# Altium footprint library OPTIC.PcbLib: 4 footprints
Each footprint in its own frame and in the unit in brackets; x right, y up, seen from the top. Pads: shape width x height; smd on the part's side, far side on the other; paste and mask are expansions set on the pad; w line width, h text height; cw(c..) or ccw(c..) is an arc to the next point about the centre after c.
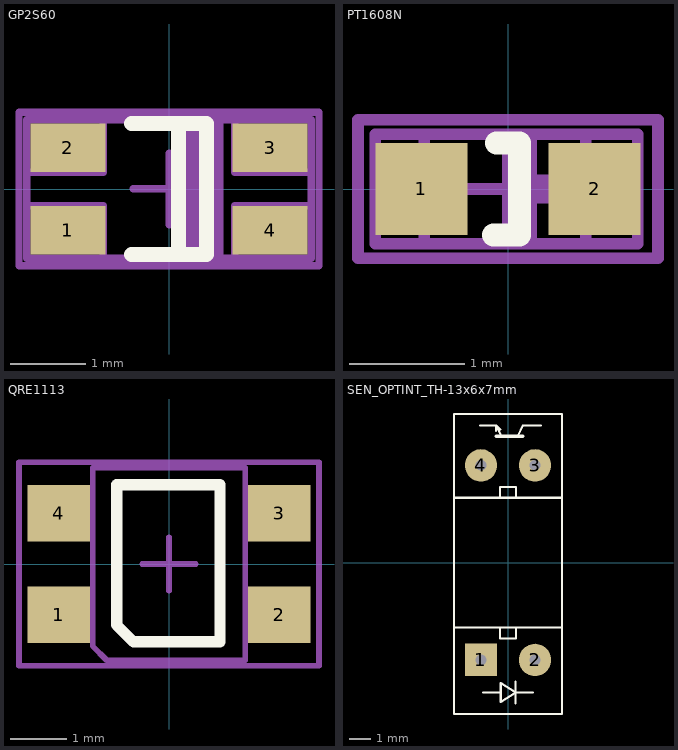
[diagram p0: the footprints below, top view; thin cyan lines are the x and y axes]

## GP2S60 [mm] "Compact Reflective  Photointerrupter, Body 3.2x1.7mm"
height 1.1
pads (4):
  rect 1x0.65 smd: 1(-1.35,-0.55) 2(-1.35,0.55) 3(1.35,0.55) 4(1.35,-0.55)
Top Overlay:
  lines w0.2: -0.5,-0.875 0.5,-0.875 0.5,0.875 -0.5,0.875 ; 0.125,-0.875 0.125,0.875
Top Package:
  region: 0.725,0.925 0.075,0.925 0.075,-0.925 0.725,-0.925
  lines w0.1: -1.9,-0.225 -0.875,-0.225 -0.875,-0.925 ; -1.9,0.225 -0.875,0.225 -0.875,0.925 ; 0.675,-0.475 0.675,0.475 ; 0.875,-0.925 0.875,-0.225 1.9,-0.225 ; 0.875,0.925 0.875,0.225 1.9,0.225 ; -1.9,-0.925 -1.9,0.925 1.9,0.925 1.9,-0.925 -1.9,-0.925
Top Border:
  lines w0.1: -0.475,0 0.475,0 ; 0,-0.475 0,0.475 ; -2,-1.025 -2,1.025 2,1.025 2,-1.025 -2,-1.025
3D body "GP2S60.stp": height 1.11, standoff -0.01, extent -1.61,-0.86 1.61,0.86

## PT1608N [mm] "IR ptototransistor, Body 1.6x0.8mm"
height 0.9
pads (2):
  rect 0.8x0.8 smd: 1(-0.75,0) 2(0.75,0)
Top Overlay:
  lines w0.2: -0.125,-0.4 0.1,-0.4 0.1,0.4 -0.1,0.4
Top Package:
  region: 0.25,0.45 0.05,0.45 0.05,-0.475 0.25,-0.475
  region: 0.475,0.125 0.25,0.125 0.25,-0.125 0.475,-0.125
  lines w0.1: -0.725,-0.475 -0.725,0.475 ; 0.675,-0.475 0.675,0.475 ; -1.15,-0.475 -1.15,0.475 1.125,0.475 1.125,-0.475 -1.15,-0.475
Top Border:
  lines w0.1: -0.475,0 0.475,0 ; 0,-0.475 0,0.475 ; -1.3,-0.6 -1.3,0.6 1.3,0.6 1.3,-0.6 -1.3,-0.6
3D body "PT SMD0603.stp": height 0.68, standoff 0, extent -0.808,-0.368 0.842,0.357

## QRE1113 [mm] "Compact Reflective  Photointerrupter, Body 3.4x2.8mm"
height 1.6
pads (4):
  rect 1.1x1 smd: 1(-1.95,-0.9) 2(1.95,-0.9) 3(1.95,0.9) 4(-1.95,0.9)
Top Overlay:
  lines w0.2: -0.925,1.375 -0.925,-1.075 -0.625,-1.375 0.9,-1.375 0.9,1.4 -0.925,1.4
Top Package:
  lines w0.1: -1.35,-1.45 -1.1,-1.7 1.35,-1.7 1.35,1.7 -1.35,1.7 -1.35,-1.45
Top Border:
  lines w0.1: -0.475,0 0.475,0 ; 0,-0.475 0,0.475 ; -2.65,-1.8 -2.65,1.8 2.65,1.8 2.65,-1.8 -2.65,-1.8
3D body "QRE1113.stp": height 1.6, standoff 0, extent -2.35,-1.7 2.35,1.7

## SEN_OPTINT_TH-13x6x7mm [mil]
height 275.59
pads (4):
  rect 60x60 hole 19.68: 1(-50,-180)
  round 60 hole 19.68: 2(50,-180) 3(50,180) 4(-50,180)
Top Overlay:
  lines w3.94: -100,-120 100,-120 ; -100,120 100,120 ; -52,254 -22,254 ; -46,-240 -13.5,-240 ; -22,244 -22,254 ; -15,-120 -15,-140 15,-140 15,-120 ; -15,120 -15,140 15,140 15,120 ; -14,246 -22,254 ; -12,234 -22,254 ; 14,-260 14,-220 ; 18,234 28,254 60.5,254 ; 46,-240 14,-240 ; 14,-240 -13.5,-257.5 -13.5,-222.5 14,-240 ; -100,-280 -100,275 100,275 100,-280 -100,-280
  lines w5.91: -22,234 28,234
3D body "20528.stp": height 440.94, standoff -157.48, extent -118.11,-283.46 118.1,283.47